# Altium footprint library LGA_36CK1.PcbLib: 1 footprints
Each footprint in its own frame and in the unit in brackets; x right, y up, seen from the top. Pads: shape width x height; smd on the part's side, far side on the other; paste and mask are expansions set on the pad; w line width, h text height; cw(c..) or ccw(c..) is an arc to the next point about the centre after c.
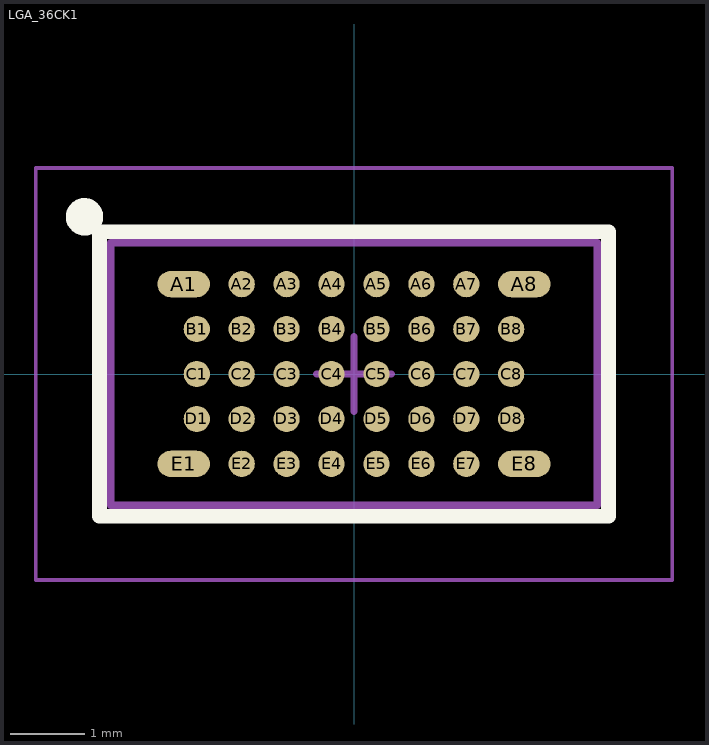
[diagram p0: the footprint, top view; thin cyan lines are the x and y axes]

## LGA_36CK1 [mm] "BGA, 40-Leads, Body 3.5x6.5mm, Pitch 0.6mm"
height 0.73
pads (40):
  oval 0.7x0.35 smd paste-0.009 mask+0.05: A1(-2.275,1.2) A8(2.275,1.2) E1(-2.275,-1.2) E8(2.275,-1.2)
  round 0.35 smd paste-0.009 mask+0.05: A2(-1.5,1.2) A3(-0.9,1.2) A4(-0.3,1.2) A5(0.3,1.2) A6(0.9,1.2) A7(1.5,1.2) B1(-2.1,0.6) B2(-1.5,0.6) B3(-0.9,0.6) B4(-0.3,0.6) B5(0.3,0.6) B6(0.9,0.6) B7(1.5,0.6) B8(2.1,0.6) C1(-2.1,0) C2(-1.5,0) C3(-0.9,0) C4(-0.3,0) C5(0.3,0) C6(0.9,0) C7(1.5,0) C8(2.1,0) D1(-2.1,-0.6) D2(-1.5,-0.6) D3(-0.9,-0.6) D4(-0.3,-0.6) D5(0.3,-0.6) D6(0.9,-0.6) D7(1.5,-0.6) D8(2.1,-0.6) E2(-1.5,-1.2) E3(-0.9,-1.2) E4(-0.3,-1.2) E5(0.3,-1.2) E6(0.9,-1.2) E7(1.5,-1.2)
Top Overlay:
  circle w0.25: c-3.6,2.1 r0.125
  lines w0.2: -3.4,-1.9 -3.4,1.9 3.4,1.9 3.4,-1.9 -3.4,-1.9
Mechanical 13:
  lines w0.1: -3.25,-1.75 -3.25,1.75 3.25,1.75 3.25,-1.75 -3.25,-1.75
Mechanical 15:
  lines w0.05: -4.25,-2.75 -4.25,2.75 4.25,2.75 4.25,-2.75 -4.25,-2.75
  lines w0.1: -0.5,0 0.5,0 ; 0,-0.5 0,0.5
3D body: height 0.73, standoff 0, extent -3.25,-1.75 3.25,1.75